# EAGLE library part LTC2402CMS (library HomeMade)
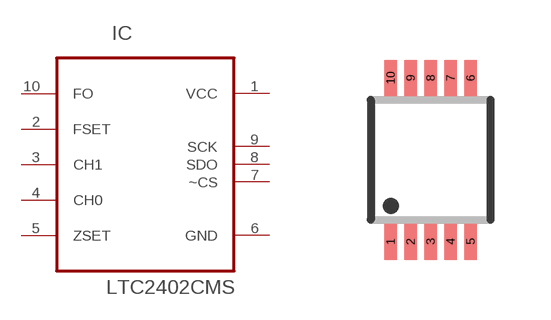
[diagram p6: symbol with the pads of MSOP10; footprint MSOP10]

Designator prefix IC

## LTC2402CMS  [MSOP10]
1  VCC  pwr
2  FSET  in
3  CH1  in
4  CH0  in
5  ZSET  in
6  GND  pas
7  ~CS  in
8  SDO  out
9  SCK  in
10  FO  in

## Footprint MSOP10 (pad centres in mm)
smd 0.31 x 0.9: 1 -1,-2.05; 2 -0.5,-2.05; 3 0,-2.05; 4 0.5,-2.05; 5 1,-2.05; 6 1,2.05; 7 0.5,2.05; 8 0,2.05; 9 -0.5,2.05; 10 -1,2.05